# Altium schematic symbol library 2PINHEADER.SchLib: 1 symbol
Pins are listed as number, name and electrical type; pins without a type are passive.

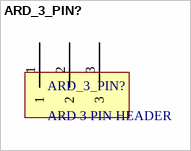
[diagram p0: symbol ARD_3_PIN?]

## ARD_3_PIN?
designator ARD_3_PIN?, comment ARD 3 PIN HEADER
footprint 4 PIN HEADER
pins: 1, 2, 3